# Altium schematic symbol library 200G_TX_LIB.SchLib: 12 symbols
Pins are listed as number, name and electrical type; pins without a type are passive.

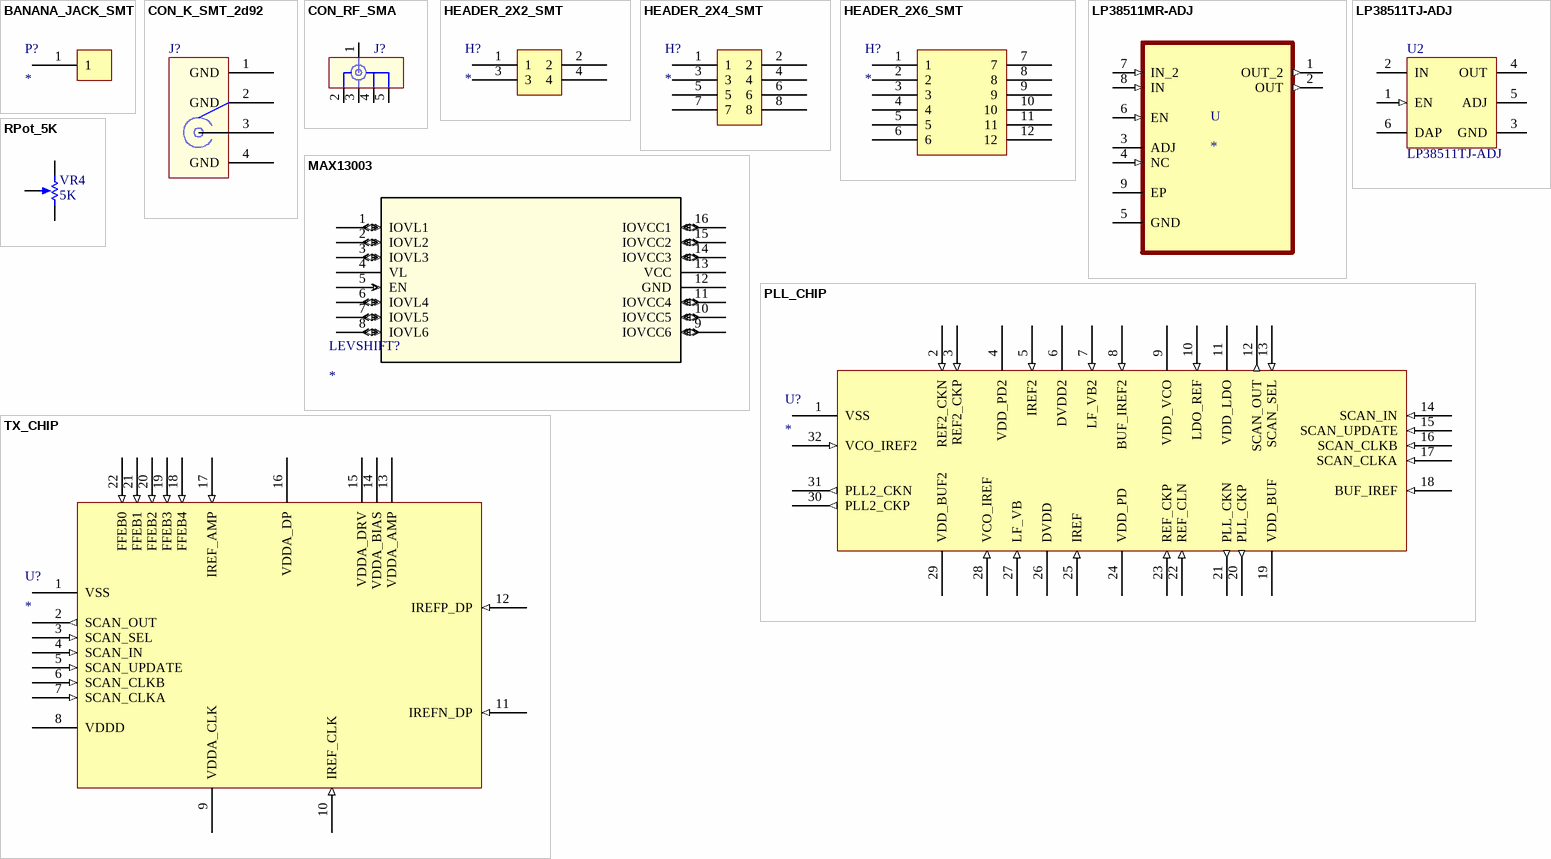
[diagram p0: symbols BANANA_JACK_SMT to TX_CHIP]

## BANANA_JACK_SMT
designator P?
footprint BANANA_JACK_SMT
pins: 1 (power)

## CON_K_SMT_2d92
designator J?
Con RF K
footprint CON_K_SMT_2d92
pins: 1 GND, 2 GND, 3 1, 4 GND

## CON_RF_SMA
designator J?, comment Con RF SMA  (value not drawn)
footprint CON-001-250X250/SMA-SMT
pins: 1, 2, 3, 4, 5

## HEADER_2X2_SMT
designator H?
footprint HEADER_2X4_SMT
pins: 1, 2, 3, 4

## HEADER_2X4_SMT
designator H?
footprint HEADER_2X4_SMT
pins: 1, 2, 3, 4, 5, 6, 7, 8

## HEADER_2X6_SMT
designator H?
footprint HDR2X6_SMT
pins: 1, 2, 3, 4, 5, 6, 7, 8, 9, 10, 11, 12

## LP38511MR-ADJ
designator U
Linear Voltage Regulator IC 1 Output 800mA 8-SO PowerPad; MF: Texas Instruments; MP: LP38511MR-ADJ/NOPB; Value: *; Availability: Unavailable; Price: None; SnapEDA_Link: https://www.snapeda.com/parts/LP38511MR-ADJ/NOPB/Texas%20Instruments/view-part/92124/?ref=snap; Package: PowerSOIC-8 Texas Instruments
footprint SOIC127P600X168-8N
pins: 1 OUT_2 (out), 2 OUT (out), 3 ADJ, 4 NC (in), 5 GND, 6 EN (in), 7 IN_2 (in), 8 IN (in), 9 EP

## LP38511TJ-ADJ
designator U2
800 mA Fast-Transient Response Low-Dropout Linear Voltage Regulator with Error Flag, 6-pin TO-263 Thin; Manufacturer: National Semiconductor; PackageTopMarking: NSUZXYTTE#*LP38511*TJ-ADJ; PowerWise: N; CompType: LDO IC; High-Reliability: Y; DatasheetVersion: Feb-2009; PackageVersion: revE, Jan-2008; PackageReference: TJ5A; PackageDescription: Thin TO-263, Molded, 9.85 x 10.16 x 2mm Body, 5 Lead, 1.7mm Pitch, Surface Mount; PartNumber: LP38511TJ-ADJ; RoHS: Y; PinCount: 5; ComponentLink1Description: Manufacturer URL; ComponentLink1URL: http://www.national.com/; ComponentLink2Description: LP38511 Datasheet; ComponentLink2URL: http://www.national.com/ds/LP/LP38511-ADJ.pdf; ComponentLink3Description: LP38511 Web Page; ComponentLink3URL: http://www.national.com/pf/LP/LP38511.html; ComponentLink4Description: TJ5A Package Page; ComponentLink4URL: http://www.national.com/packaging/folders/tj5a.html
footprint TJ5A_N (D2-PAK, 6-Leads, Body 9.9x10.2mm, Pitch 1.7mm, Lead Span 14mm, IPC Medium Density)
pins: 1 EN (in), 2 IN (power), 3 GND (power), 4 OUT (power), 5 ADJ, 6 DAP (power)

## MAX13003
designator LEVSHIFT?
footprint MAX13003
pins: 1 IOVL1 (io), 2 IOVL2 (io), 3 IOVL3 (io), 4 VL (power), 5 EN (in), 6 IOVL4 (io), 7 IOVL5 (io), 8 IOVL6 (io), 9 IOVCC6 (io), 10 IOVCC5 (io), 11 IOVCC4 (io), 12 GND (power), 13 VCC (power), 14 IOVCC3 (io), 15 IOVCC2 (io), 16 IOVCC1 (io)

## PLL_CHIP
designator U?
footprint PLL_CHIP
pins: 1 VSS (power), 2 REF2_CKN (in), 3 REF2_CKP (in), 4 VDD_PD2 (power), 5 IREF2 (in), 6 DVDD2 (power), 7 LF_VB2 (in), 8 BUF_IREF2 (in), 9 VDD_VCO (power), 10 LDO_REF (in), 11 VDD_LDO (power), 12 SCAN_OUT (out), 13 SCAN_SEL (in), 14 SCAN_IN (in), 15 SCAN_UPDATE (in), 16 SCAN_CLKB (in), 17 SCAN_CLKA (in), 18 BUF_IREF (in), 19 VDD_BUF (power), 20 PLL_CKP (out), 21 PLL_CKN (out), 22 REF_CLN (in), 23 REF_CKP (in), 24 VDD_PD (power), 25 IREF (in), 26 DVDD (power), 27 LF_VB (in), 28 VCO_IREF (in), 29 VDD_BUF2 (power), 30 PLL2_CKP (out), 31 PLL2_CKN (out), 32 VCO_IREF2 (in)

## RPot_5K
designator VR4, comment 5K
Potentiometer; Manufacturer: Bourns; Manufacturer ID: 3214X-1-502E; Digikey ID: 3214X-1-502ECT-ND
footprint POT_3214_Top (5 turn Trimpot, 3214, Top adjust)
footprint PV36
pins: 1 TOP, 2 TAP, 3 BOT
1 alternate drawing of the same symbol

## TX_CHIP
designator U?
footprint TX_CHIP
pins: 1 VSS (power), 2 SCAN_OUT (out), 3 SCAN_SEL (in), 4 SCAN_IN (in), 5 SCAN_UPDATE (in), 6 SCAN_CLKB (in), 7 SCAN_CLKA (in), 8 VDDD (power), 9 VDDA_CLK (power), 10 IREF_CLK (in), 11 IREFN_DP (in), 12 IREFP_DP (in), 13 VDDA_AMP (power), 14 VDDA_BIAS (power), 15 VDDA_DRV (power), 16 VDDA_DP (power), 17 IREF_AMP (in), 18 FFEB4 (in), 19 FFEB3 (in), 20 FFEB2 (in), 21 FFEB1 (in), 22 FFEB0 (in)